# Altium schematic symbol library OPA625.SchLib: 1 symbol
Pins are listed as number, name and electrical type; pins without a type are passive.

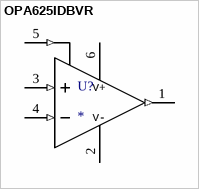
[diagram p0: symbol OPA625IDBVR]

## OPA625IDBVR
designator U?
Imported; PartNumber: OPA625IDBVR; Alternate PartNumber: OPA625IDBVT; Manufacturer: Texas Instruments; CompType: IC; PIN_COUNT: 6; PackageReference: DBV0006A; MountType: SMT; RoHS: Y; RefDes: RefDes; Type: DEV; Value: Value
footprint DBV0006A_N
pins: 1 OUT (out), 2 V- (power), 3 IN+ (in), 4 IN- (in), 5 MODE (in), 6 V+ (power)